# EAGLE library part STM32G031G8U6 (library stm32)
64MHz ARM® Cortex®-M0+ 1.7V ~ 3.6V UFQFPN-28 ST Microelectronics ROHS
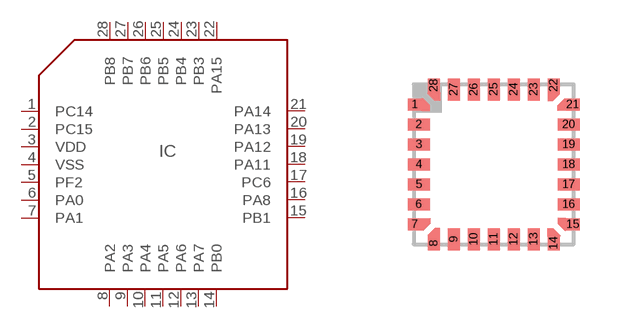
[diagram p1: symbol with the pads of UFQFPN28; footprint UFQFPN28]

Designator prefix IC

## STM32G031G8U6 (LCSC#: C432211; MANF: STMicroelectronics; MANF#: STM32G031G8U6)  [UFQFPN28]
1  PC14
2  PC15
3  VDD
4  VSS
5  PF2
6  PA0
7  PA1
8  PA2
9  PA3
10  PA4
11  PA5
12  PA6
13  PA7
14  PB0
15  PB1
16  PA8
17  PC6
18  PA11
19  PA12
20  PA13
21  PA14
22  PA15
23  PB3
24  PB4
25  PB5
26  PB6
27  PB7
28  PB8

## Footprint UFQFPN28 (pad centres in mm)
smd 0.35 x 0.3: 1 -1.975,1.5; 7 -1.975,-1.5; 15 1.975,-1.5; 21 1.975,1.5
smd 0.55 x 0.3: 2 -1.875,1; 3 -1.875,0.5; 4 -1.875,0; 5 -1.875,-0.5; 6 -1.875,-1; 16 1.875,-1; 17 1.875,-0.5; 18 1.875,0; 19 1.875,0.5; 20 1.875,1
smd 0.3 x 0.35: 8 -1.5,-1.975; 14 1.5,-1.975; 22 1.5,1.975; 28 -1.5,1.975
smd 0.3 x 0.55: 9 -1,-1.875; 10 -0.5,-1.875; 11 0,-1.875; 12 0.5,-1.875; 13 1,-1.875; 23 1,1.875; 24 0.5,1.875; 25 0,1.875; 26 -0.5,1.875; 27 -1,1.875